# EAGLE library part IN-4 (library nixietubes-russian)
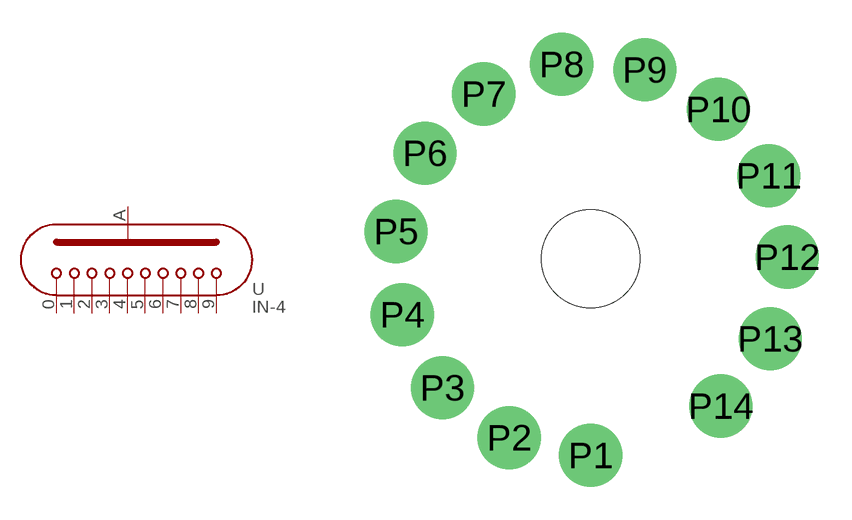
[diagram p5: symbol with the pads of IN-4; footprint IN-4]

Designator prefix -

## IN-4  [IN-4]
P1  4
P2  6
P3  8
P4  A
P5  9
P6  7
P8  0
P9  2
P11  3
P12  5
P14  1

## Footprint IN-4 (pad centres in mm)
This is the footprint suitable for the following nixie tubes: * IN-4 Tube diameter: 31mm Height from PCB: 35mm
drill 1.93: P1 0,-9; P2 -3.732,-8.19; P3 -6.792,-5.905; P4 -8.629,-2.556; P5 -8.912,1.253; P6 -7.591,4.836; P7 -4.902,7.548; P8 -1.33,8.901; P9 2.481,8.651; P10 5.845,6.844; P11 8.157,3.804; P12 9,0.079; P13 8.222,-3.661; P14 5.964,-6.741
hole 4.5 at 0,0